# Altium footprint library RESC5025X07.PcbLib: 1 footprints
Each footprint in its own frame and in the unit in brackets; x right, y up, seen from the top. Pads: shape width x height; smd on the part's side, far side on the other; paste and mask are expansions set on the pad; w line width, h text height; cw(c..) or ccw(c..) is an arc to the next point about the centre after c.
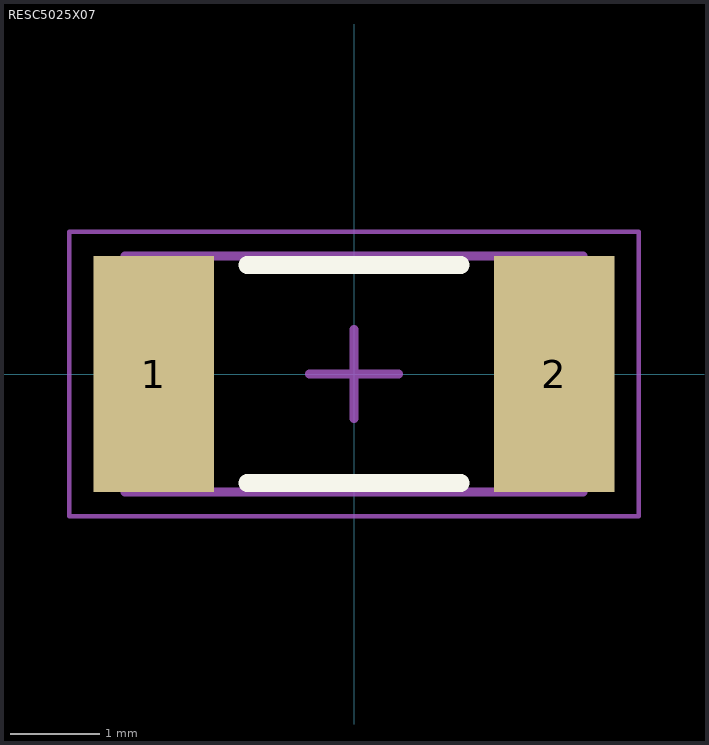
[diagram p0: the footprint, top view; thin cyan lines are the x and y axes]

## RESC5025X07 [mm] "Chip Resistor, 2-Leads, Body 5,00x2,50mm, IPC Medium Density 2010"
height 0.71
pads (2):
  rect 1.35x2.65 smd: 1(-2.25,0) 2(2.25,0)
Top Overlay:
  lines w0.2: -1.2,-1.225 1.2,-1.225 ; -1.2,1.225 1.2,1.225
3D Body:
  lines w0.1: -2.575,-1.325 -2.575,1.325 2.575,1.325 2.575,-1.325 -2.575,-1.325
Board:
  lines w0.05: -3.2,-1.6 -3.2,1.6 3.2,1.6 3.2,-1.6 -3.2,-1.6
  lines w0.1: -0.5,0 0.5,0 ; 0,-0.5 0,0.5
3D body: height 0.71, standoff 0, extent -1.975,-1.325 1.975,1.325
3D body: height 0.71, standoff 0, extent -2.575,-1.325 -1.975,1.325
3D body: height 0.71, standoff 0, extent 1.975,-1.325 2.575,1.325